# Altium footprint library SOT563.PcbLib: 1 footprints
Each footprint in its own frame and in the unit in brackets; x right, y up, seen from the top. Pads: shape width x height; smd on the part's side, far side on the other; paste and mask are expansions set on the pad; w line width, h text height; cw(c..) or ccw(c..) is an arc to the next point about the centre after c.
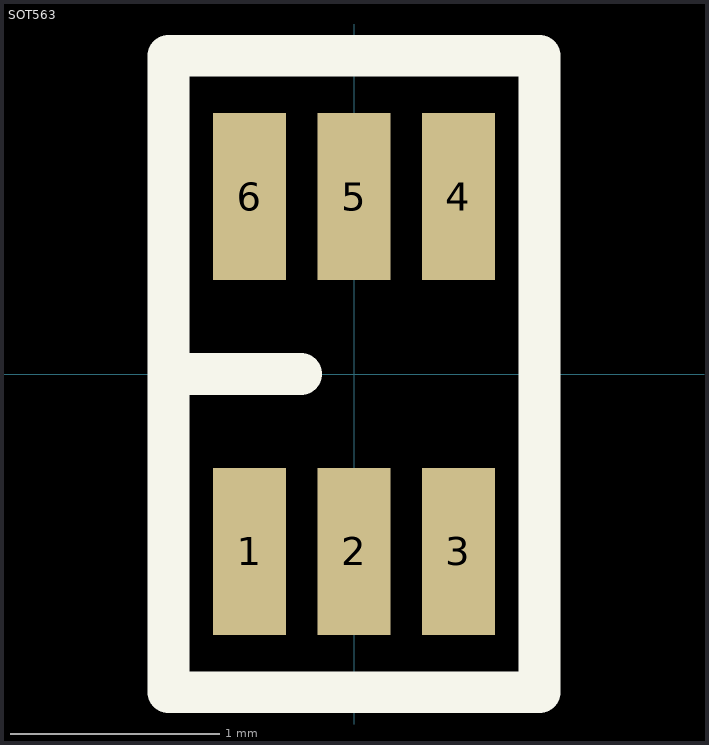
[diagram p0: the footprint, top view; thin cyan lines are the x and y axes]

## SOT563 [mm]
pads (6):
  rect 0.35x0.8 smd: 1(-0.5,-0.85) 2(0,-0.85) 3(0.5,-0.85) 4(0.5,0.85) 5(0,0.85) 6(-0.5,0.85)
Top Overlay:
  lines w0.2: -0.889,0 -0.254,0 ; -0.889,-1.524 0.889,-1.524 0.889,1.524 -0.889,1.524 -0.889,-1.524
3D body: height 0.58, standoff 0, extent -0.8,-0.813 0.8,0.813